# Altium footprint library PQFN50P400X500X80_HS-17N.PcbLib: 1 footprints
Each footprint in its own frame and in the unit in brackets; x right, y up, seen from the top. Pads: shape width x height; smd on the part's side, far side on the other; paste and mask are expansions set on the pad; w line width, h text height; cw(c..) or ccw(c..) is an arc to the next point about the centre after c.
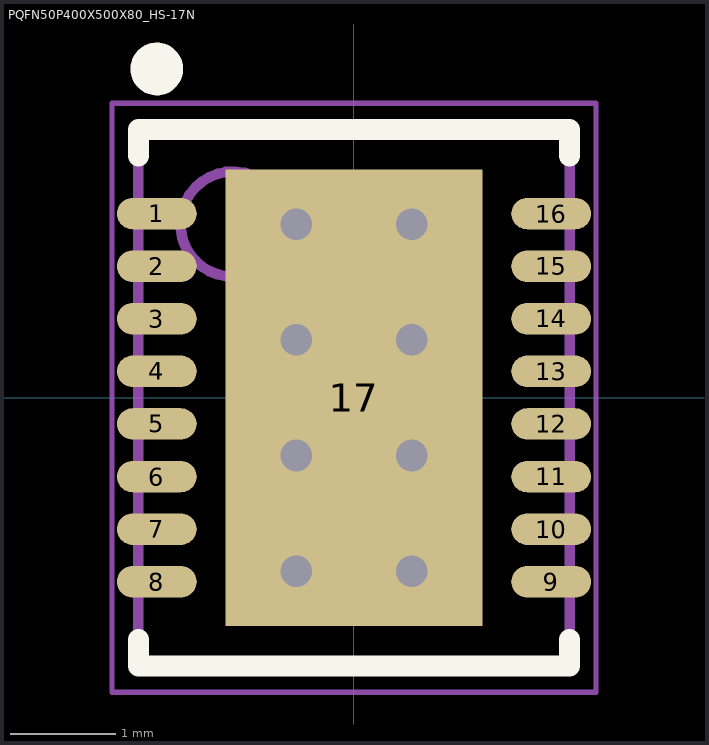
[diagram p0: the footprint, top view; thin cyan lines are the x and y axes]

## PQFN50P400X500X80_HS-17N [mm] "PQFN, 16-Leads, Body 4,00x5,00mm, Pitch 0,50mm, Thermal Pad 2,44x4,34mm, IPC Medium Density"
height 0.8
pads (17):
  oval 0.76x0.3 smd: 1(-1.875,1.75) 2(-1.875,1.25) 3(-1.875,0.75) 4(-1.875,0.25) 5(-1.875,-0.25) 6(-1.875,-0.75) 7(-1.875,-1.25) 8(-1.875,-1.75) 9(1.875,-1.75) 10(1.875,-1.25) 11(1.875,-0.75) 12(1.875,-0.25) 13(1.875,0.25) 14(1.875,0.75) 15(1.875,1.25) 16(1.875,1.75)
  rect 2.44x4.34 smd: 17(0,0)
via -0.55,1.65 diameter 0.6 hole 0.3
via 0.55,1.65 diameter 0.6 hole 0.3
via -0.55,0.55 diameter 0.6 hole 0.3
via 0.55,0.55 diameter 0.6 hole 0.3
via -0.55,-0.55 diameter 0.6 hole 0.3
via 0.55,-0.55 diameter 0.6 hole 0.3
via -0.55,-1.65 diameter 0.6 hole 0.3
via 0.55,-1.65 diameter 0.6 hole 0.3
Top Overlay:
  circle w0.25: c-1.875,3.125 r0.125
  lines w0.2: -2.05,-2.3 -2.05,-2.55 0.3,-2.55 2.05,-2.55 2.05,-2.3 ; -2.05,2.3 -2.05,2.55 0.275,2.55 ; 0.3,2.55 2.05,2.55 2.05,2.3
13:
  circle w0.1: c-1.15,1.65 r0.5
  lines w0.1: -2.05,-2.55 -2.05,2.55 2.05,2.55 2.05,-2.55 -2.05,-2.55
Mechanical 15:
  lines w0.05: -2.3,-2.8 -2.3,2.8 2.3,2.8 2.3,-2.8 -2.3,-2.8
  lines w0.1: -0.5,0 0.5,0 ; 0,-0.5 0,0.5
3D body "PQFN50P400X500X80_HS-17N.step": height 0.8, standoff 0, extent -2.05,-2.55 2.05,2.55